# Altium footprint library Sensor.PcbLib: 10 footprints
Each footprint in its own frame and in the unit in brackets; x right, y up, seen from the top. Pads: shape width x height; smd on the part's side, far side on the other; paste and mask are expansions set on the pad; w line width, h text height; cw(c..) or ccw(c..) is an arc to the next point about the centre after c.
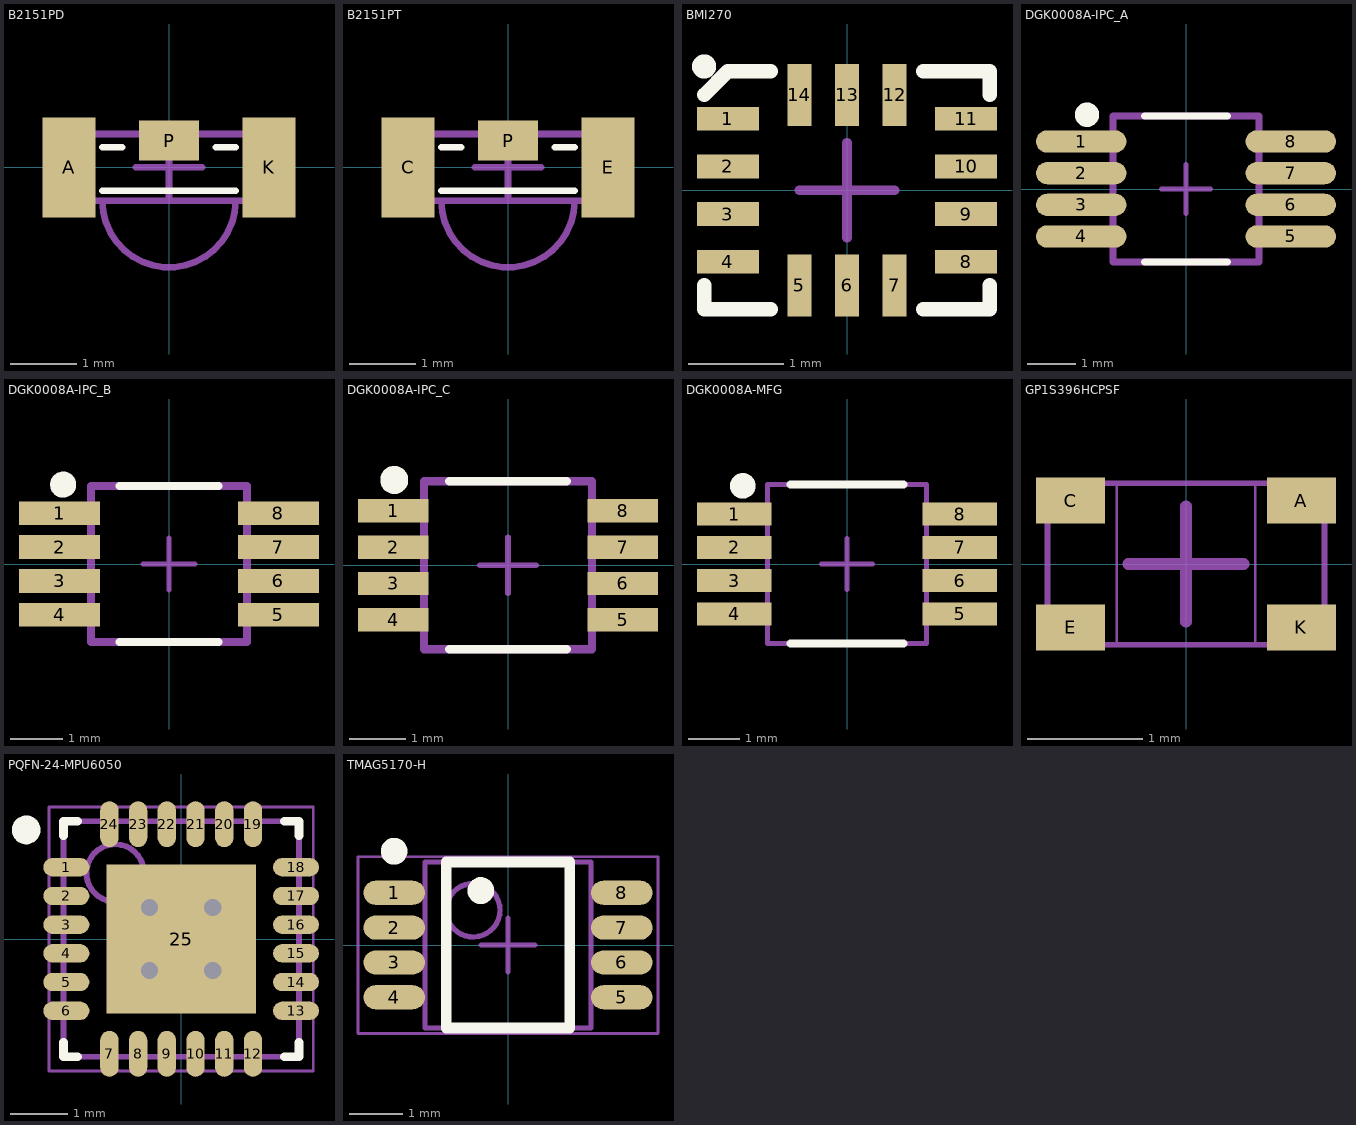
[diagram p0: the footprints below, top view; thin cyan lines are the x and y axes]

## B2151PD [mm]
pads (3):
  rect 0.8x1.5 smd: A(-1.5,0) K(1.5,0)
  rect 0.9x0.6 smd: P(0,0.4)
Top Overlay:
  lines w0.1: -1,-0.35 1,-0.35 ; -1,0.3 -0.7,0.3 ; 0.7,0.3 1,0.3
Top Component Outline:
  lines w0.1: -1,-0.5 ccw(c0,-0.5) 1,-0.5 ; -1.5,-0.5 -1.5,0.5 1.5,0.5 1.5,-0.5 -1.5,-0.5
Top Component Center:
  lines w0.1: -0.5,0 0.5,0 ; 0,-0.5 0,0.5
3D body: height 0.9, standoff 0, extent -1,-1.5 1,0.5
3D body: height 1, standoff 0, extent -1.5,-0.5 1.5,0.5

## B2151PT [mm]
pads (3):
  rect 0.8x1.5 smd: C(-1.5,0) E(1.5,0)
  rect 0.9x0.6 smd: P(0,0.4)
Top Overlay:
  lines w0.1: -1,-0.35 1,-0.35 ; -1,0.3 -0.7,0.3 ; 0.7,0.3 1,0.3
Top Component Outline:
  lines w0.1: -1,-0.5 ccw(c0,-0.5) 1,-0.5 ; -1.5,-0.5 -1.5,0.5 1.5,0.5 1.5,-0.5 -1.5,-0.5
Top Component Center:
  lines w0.1: -0.5,0 0.5,0 ; 0,-0.5 0,0.5
3D body: height 0.9, standoff 0, extent -1,-1.5 1,0.5
3D body: height 1, standoff 0, extent -1.5,-0.5 1.5,0.5

## BMI270 [mm]
height 0.83
pads (14):
  rect 0.65x0.25 smd: 1(-1.25,0.75) 2(-1.25,0.25) 3(-1.25,-0.25) 4(-1.25,-0.75) 8(1.25,-0.75) 9(1.25,-0.25) 10(1.25,0.25) 11(1.25,0.75)
  rect 0.25x0.65 smd: 5(-0.5,-1) 6(0,-1) 7(0.5,-1) 12(0.5,1) 13(0,1) 14(-0.5,1)
Top Overlay:
  circle w0.152: c-1.5,1.3 r0.051
  lines w0.152: -1.5,-1 -1.5,-1.25 -0.8,-1.25 ; -1.5,1 -1.25,1.25 -1.15,1.25 -0.8,1.25 ; 0.8,-1.25 1.5,-1.25 1.5,-1 ; 0.8,1.25 1.5,1.25 1.5,1
Top Component Center:
  lines w0.1: -0.5,0 0.5,0 ; 0,-0.5 0,0.5
3D body: height 0.83, standoff 0, extent -1.5,-1.25 1.5,1.25

## DGK0008A-IPC_A [mm]
pads (8):
  oval 1.857x0.457 smd paste+0 mask+0: 1(-2.151,0.975) 2(-2.151,0.325) 3(-2.151,-0.325) 4(-2.151,-0.975) 5(2.151,-0.975) 6(2.151,-0.325) 7(2.151,0.325) 8(2.151,0.975)
Top Overlay:
  circle w0.25: c-2.032,1.524 r0.125
  lines w0.15: -0.848,-1.5 0.848,-1.5 ; -0.848,1.5 0.848,1.5
Top Component Outline:
  lines w0.15: -1.5,-1.5 -1.5,1.5 1.5,1.5 1.5,-1.5 -1.5,-1.5
Top Component Center:
  lines w0.1: -0.5,0 0.5,0 ; 0,-0.5 0,0.5
3D body "DGK0008A.stp": height 1.1, standoff 0, extent -2.513,-1.501 2.389,1.496

## DGK0008A-IPC_B [mm]
pads (8):
  rect 1.557x0.458 smd paste+0 mask+0: 1(-2.101,0.975) 2(-2.101,0.325) 3(-2.101,-0.325) 4(-2.101,-0.975) 5(2.101,-0.975) 6(2.101,-0.325) 7(2.101,0.325) 8(2.101,0.975)
Top Overlay:
  circle w0.25: c-2.032,1.524 r0.125
  lines w0.15: -0.948,-1.5 0.948,-1.5 ; -0.948,1.5 0.948,1.5
Top Component Outline:
  lines w0.15: -1.5,-1.5 1.5,-1.5 1.5,1.5 -1.5,1.5 -1.5,-1.5
Top Component Center:
  lines w0.1: -0.5,0 0.5,0 ; 0,-0.5 0,0.5
3D body "DGK0008A.stp": height 1.1, standoff 0, extent -2.455,-1.49 2.447,1.507

## DGK0008A-IPC_C [mm]
pads (8):
  rect 1.257x0.418 smd paste+0 mask+0: 1(-2.051,0.975) 2(-2.051,0.325) 3(-2.051,-0.325) 4(-2.051,-0.975) 5(2.051,-0.975) 6(2.051,-0.325) 7(2.051,0.325) 8(2.051,0.975)
Top Overlay:
  circle w0.25: c-2.032,1.524 r0.125
  lines w0.15: -1.048,-1.5 1.048,-1.5 ; -1.048,1.5 1.048,1.5
Top Component Outline:
  lines w0.15: -1.5,-1.5 1.5,-1.5 1.5,1.5 -1.5,1.5 -1.5,-1.5
Top Component Center:
  lines w0.1: -0.5,0 0.5,0 ; 0,-0.5 0,0.5
3D body "DGK0008A.stp": height 1.1, standoff 0, extent -2.197,-1.499 2.705,1.499

## DGK0008A-MFG [mm]
pads (8):
  rect 1.45x0.45 smd paste+0 mask+0: 1(-2.2,0.975) 2(-2.2,0.325) 3(-2.2,-0.325) 4(-2.2,-0.975) 5(2.2,-0.975) 6(2.2,-0.325) 7(2.2,0.325) 8(2.2,0.975)
Top Overlay:
  circle w0.25: c-2.032,1.524 r0.125
  lines w0.15: -1.1,-1.55 1.1,-1.55 ; -1.1,1.55 1.1,1.55
Top Component Outline:
  lines w0.1: -1.55,-1.55 1.55,-1.55 1.55,1.55 -1.55,1.55 -1.55,-1.55
Top Component Center:
  lines w0.1: -0.5,0 0.5,0 ; 0,-0.5 0,0.5
3D body "DGK0008A.stp": height 1.1, standoff 0, extent -2.451,-1.499 2.451,1.499

## GP1S396HCPSF [mm] "Gap : 1.2mm Slit : 0.12mm / Refer datasheet for more detailed 3D model"
height 1.626
pads (4):
  rect 0.6x0.4 smd: A(1,0.55) C(-1,0.55) E(-1,-0.55) K(1,-0.55)
Top Component Outline:
  lines w0.025: -1.2,-0.7 -0.6,-0.7 -0.6,0.7 -1.2,0.7 -1.2,-0.7 ; 0.6,-0.7 1.2,-0.7 1.2,0.7 0.6,0.7 0.6,-0.7
  lines w0.05: -1.2,-0.7 1.2,-0.7 1.2,0.7 -1.2,0.7 -1.2,-0.7
Top Component Center:
  lines w0.1: -0.5,0 0.5,0 ; 0,-0.5 0,0.5
3D body: height 1.6, standoff 0, extent 0.6,-0.7 1.2,0.7
3D body: height 0.48, standoff 0, extent -0.6,-0.7 0.6,0.7
3D body: height 1.6, standoff 0, extent -1.2,-0.7 -0.6,0.7

## PQFN-24-MPU6050 [mm]
height 0.9
pads (25):
  oval 0.8x0.32 smd: 1(-2,1.25) 2(-2,0.75) 3(-2,0.25) 4(-2,-0.25) 5(-2,-0.75) 6(-2,-1.25) 13(2,-1.25) 14(2,-0.75) 15(2,-0.25) 16(2,0.25) 17(2,0.75) 18(2,1.25)
  oval 0.32x0.8 smd: 7(-1.25,-2) 8(-0.75,-2) 9(-0.25,-2) 10(0.25,-2) 11(0.75,-2) 12(1.25,-2) 19(1.25,2) 20(0.75,2) 21(0.25,2) 22(-0.25,2) 23(-0.75,2) 24(-1.25,2)
  rect 2.6x2.6 smd: 25(0,0)
via -0.55,0.55 diameter 0.6 hole 0.3
via 0.55,0.55 diameter 0.6 hole 0.3
via -0.55,-0.55 diameter 0.6 hole 0.3
via 0.55,-0.55 diameter 0.6 hole 0.3
Top Overlay:
  circle w0.25: c-2.7,1.9 r0.125
  lines w0.152: -2.05,-1.801 -2.05,-2.05 -1.801,-2.05 ; -2.05,1.801 -2.05,2.05 -1.801,2.05 ; 1.801,-2.05 2.05,-2.05 2.05,-1.801 ; 1.801,2.05 2.05,2.05 2.05,1.801
Top Component Outline:
  circle w0.1: c-1.15,1.15 r0.5
  lines w0.1: -2.05,-2.05 2.05,-2.05 2.05,2.05 -2.05,2.05 -2.05,-2.05
Top Component Center:
  lines w0.1: -0.5,0 0.5,0 ; 0,-0.5 0,0.5
Top Courtyard:
  lines w0.05: -2.3,-2.3 -2.3,2.3 2.3,2.3 2.3,-2.3 -2.3,-2.3
3D body "PQFN-24-MPU6050.step": height 0.9, standoff 0, extent -2.05,-2.05 2.05,2.05

## TMAG5170-H [mm] "TMAG5170 Wizard High Density"
height 1.1
pads (8):
  oval 1.15x0.45 smd: 1(-2.125,0.975) 2(-2.125,0.325) 3(-2.125,-0.325) 4(-2.125,-0.975) 5(2.125,-0.975) 6(2.125,-0.325) 7(2.125,0.325) 8(2.125,0.975)
Top Overlay:
  circle w0.25: c-2.125,1.75 r0.125
  circle w0.3: c-0.508,1.016 r0.1
  lines w0.2: -1.15,-1.55 -1.15,1.55 1.15,1.55 1.15,-1.55 -1.15,-1.55
Top Component Outline:
  circle w0.1: c-0.65,0.65 r0.5
  lines w0.1: -1.55,-1.55 -1.55,1.55 1.55,1.55 1.55,-1.55 -1.55,-1.55
Top Component Center:
  lines w0.1: -0.5,0 0.5,0 ; 0,-0.5 0,0.5
Top Courtyard:
  lines w0.05: -2.8,-1.65 -2.8,1.65 2.8,1.65 2.8,-1.65 -2.8,-1.65
3D body "TMAG5170-H.step": height 1.1, standoff 0, extent -2.45,-1.55 2.45,1.55